# Altium schematic symbol library SCH - POWER - LINEAR VREG - TI LP8340NGD.SchLib: 1 symbol
Pins are listed as number, name and electrical type; pins without a type are passive.

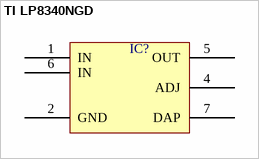
[diagram p0: symbol TI LP8340NGD]

## TI LP8340NGD
designator IC?  (value not drawn)
pins: 1 IN, 2 GND, 4 ADJ, 5 OUT, 6 IN, 7 DAP